# EAGLE library part ESP8285 (library Ma-ESP8285)
ESP8285 Microcontroller with wifi and 1M flash by Espressif
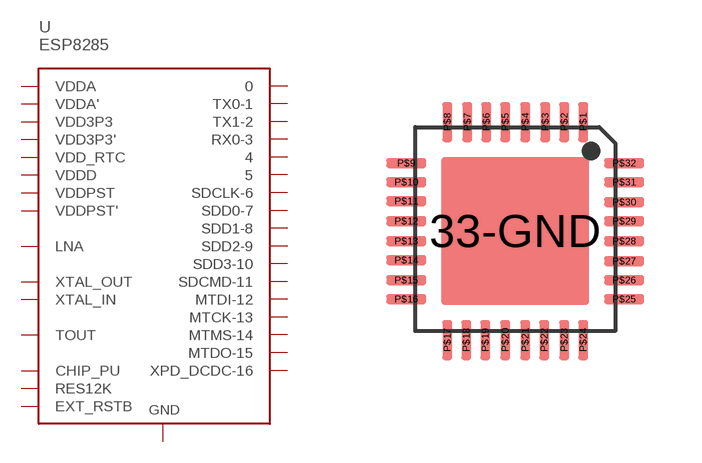
[diagram p1: symbol with the pads of QFN-32; footprint QFN-32]

Designator prefix -

## ESP8285  [QFN-32]
33-GND  GND  pwr
P$1  VDDA  pwr
P$2  LNA
P$3  VDD3P3  pwr
P$4  VDD3P3'  pwr
P$5  VDD_RTC  pwr
P$6  TOUT  in
P$7  CHIP_PU  in
P$8  XPD_DCDC-16
P$9  MTMS-14
P$10  MTDI-12
P$11  VDDPST  pwr
P$12  MTCK-13
P$13  MTDO-15
P$14  TX1-2
P$15  0
P$16  4
P$17  VDDPST'  pwr
P$18  SDD2-9
P$19  SDD3-10
P$20  SDCMD-11
P$21  SDCLK-6
P$22  SDD0-7
P$23  SDD1-8
P$24  5
P$25  RX0-3
P$26  TX0-1
P$27  XTAL_OUT  out
P$28  XTAL_IN  in
P$29  VDDD  pwr
P$30  VDDA'  pwr
P$31  RES12K  in
P$32  EXT_RSTB  in

## Footprint QFN-32 (pad centres in mm)
smd 3.7 x 3.7: 33-GND 0,0
smd 0.25 x 1: P$1 1.7,2.725; P$2 1.225,2.725; P$3 0.75,2.725; P$4 0.25,2.725; P$5 -0.25,2.725; P$6 -0.725,2.725; P$7 -1.2,2.725; P$8 -1.7,2.725; P$17 -1.7,-2.725; P$18 -1.225,-2.725; P$19 -0.75,-2.725; P$20 -0.25,-2.725; P$21 0.25,-2.725; P$22 0.725,-2.725; P$23 1.225,-2.725; P$24 1.7,-2.725
smd 1 x 0.25: P$9 -2.725,1.7; P$10 -2.725,1.225; P$11 -2.725,0.75; P$12 -2.725,0.25; P$13 -2.725,-0.25; P$14 -2.725,-0.725; P$15 -2.725,-1.225; P$16 -2.725,-1.7; P$25 2.725,-1.7; P$26 2.725,-1.225; P$27 2.725,-0.75; P$28 2.725,-0.25; P$29 2.725,0.25; P$30 2.725,0.725; P$31 2.725,1.225; P$32 2.725,1.7